# Altium integrated library Diodes - TVS.IntLib: 5379 symbols (part 13 of 122)
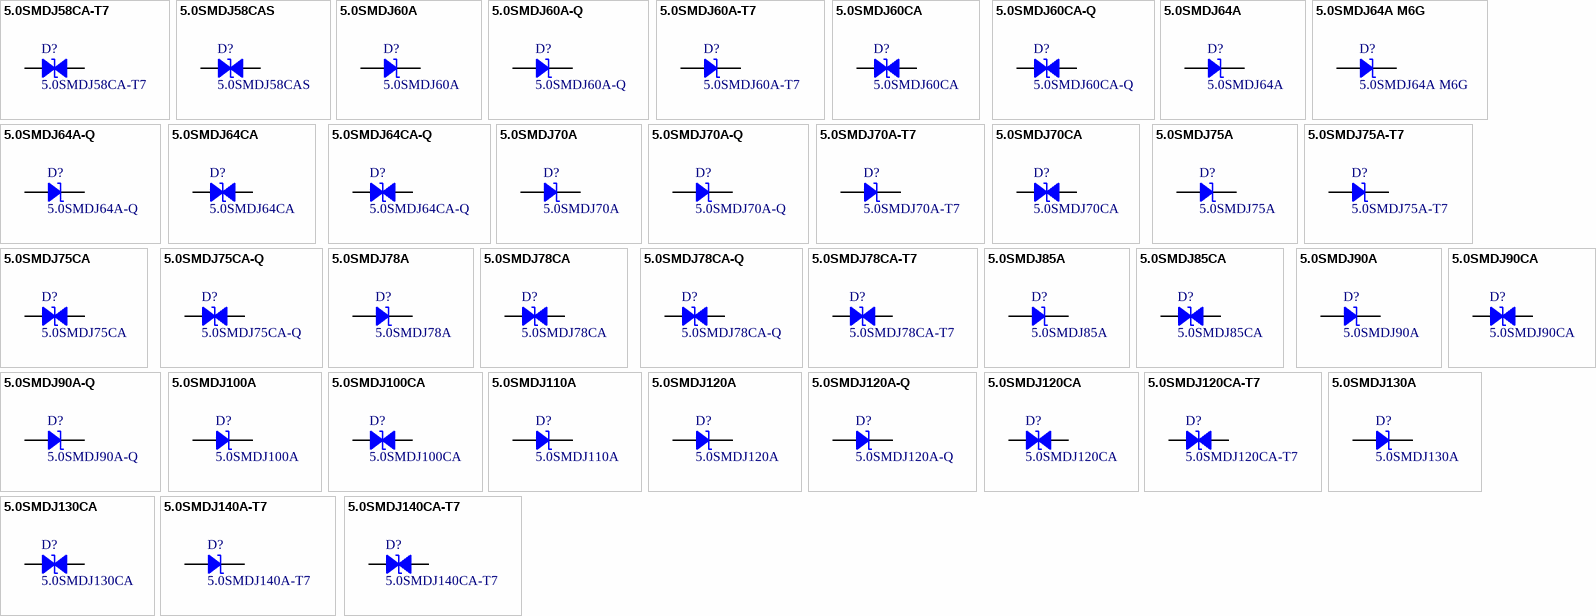
[diagram p146: symbols 5.0SMDJ58CA-T7 to 5.0SMDJ140CA-T7]

## 5.0SMDJ60A-Q
designator D?
TVS DIODE; Manufacturer: Bourns Inc.; Current - Peak Pulse (10/1000µs): 51.7A; Power Line Protection: No; Power - Peak Pulse: 5000W (5kW); Type: Zener; Unidirectional Channels: 1; Voltage - Breakdown (Min): 66.7V; Voltage - Clamping (Max) @ Ipp: 96.8V; Voltage - Reverse Standoff (Typ): 60V; Part Number: 5.0SMDJ60A-Q; Applications: Automotive, Telecom; ComponentLink1Description: Datasheet; ComponentLink1URL: https://www.bourns.com/docs/product-datasheets/5-0smdj-q.pdf; ComponentLink2Description: DigiKey Link; ComponentLink2URL: http://digikey.com/product-detail/en/bourns-inc/5.0SMDJ60A-Q/118-5.0SMDJ60A-QCT-ND/10447742; LastUpdated: 9/2/2020 1:20:06 AM; Lifecycle Status: Active; Minimum Order: 1; Mounting Type: Surface Mount; Operating Temperature: -55°C ~ 150°C (TJ); Package / Case: DO-214AB, SMC; Packaging: TapeAndReel; PartId: 7022; Part Status: Active; Price: 0.86; Series: Automotive, AEC-Q101, 5.0SMDJ; Supplier 1: DigiKey; Supplier Part Number 1: 118-5.0SMDJ60A-QCT-ND; Supplier Device Package: SMC (DO-214AB)
footprint DO214AB SMC
pins: 1, 2

## 5.0SMDJ60A-T7
designator D?
TVS DIODE 60VWM 96.8VC SMD; Manufacturer: Littelfuse Inc.; Current - Peak Pulse (10/1000µs): 51.7A; Power Line Protection: No; Power - Peak Pulse: 5000W (5kW); Type: Zener; Unidirectional Channels: 1; Voltage - Breakdown (Min): 66.7V; Voltage - Clamping (Max) @ Ipp: 96.8V; Voltage - Reverse Standoff (Typ): 60V; Part Number: 5.0SMDJ60A-T7; Applications: General Purpose; ComponentLink1Description: Datasheet; ComponentLink1URL: https://www.littelfuse.com/products/tvs-diodes/surface-mount/~/media/electronics/datasheets/tvs_diodes/littelfuse_tvs_diode_5_0smdj_datasheet.pdf.pdf; ComponentLink2Description: DigiKey Link; ComponentLink2URL: http://digikey.com/product-detail/en/littelfuse-inc/5.0SMDJ60A-T7/5.0SMDJ60A-T7CT-ND/8548368; LastUpdated: 9/2/2020 1:20:05 AM; Lifecycle Status: Active; Minimum Order: 1; Mounting Type: Surface Mount; Operating Temperature: -65°C ~ 150°C (TJ); Package / Case: DO-214AB, SMC; Packaging: TapeAndReel; PartId: 6912; Part Status: Active; Price: 1.12; Series: 5.0SMDJ; Supplier 1: DigiKey; Supplier Part Number 1: 5.0SMDJ60A-T7CT-ND; Supplier Device Package: DO-214AB (SMCJ)
footprint DO214AB SMC
pins: 1, 2

## 5.0SMDJ60CA
designator D?
DIO TVS VWM 60V 5KW BIDIR SMC; Manufacturer: Bourns Inc.; Bidirectional Channels: 1; Current - Peak Pulse (10/1000µs): 51.7A; Power Line Protection: No; Power - Peak Pulse: 5000W (5kW); Type: Zener; Voltage - Breakdown (Min): 66.7V; Voltage - Clamping (Max) @ Ipp: 96.8V; Part Number: 5.0SMDJ60CA; Applications: General Purpose; ComponentLink1Description: Datasheet; ComponentLink1URL: https://www.bourns.com/docs/product-datasheets/5-0smdj.pdf; ComponentLink2Description: DigiKey Link; ComponentLink2URL: http://digikey.com/product-detail/en/bourns-inc/5.0SMDJ60CA/5.0SMDJ60CACT-ND/9341818; LastUpdated: 9/2/2020 1:28:01 AM; Lifecycle Status: Active; Minimum Order: 1; Mounting Type: Surface Mount; Operating Temperature: -55°C ~ 150°C (TJ); Package / Case: DO-214AB, SMC; Packaging: TapeAndReel; PartId: 7901; Part Status: Active; Price: 0.71; Series: 5.0SMDJ; Supplier 1: DigiKey; Supplier Part Number 1: 5.0SMDJ60CACT-ND; Supplier Device Package: DO-214AB (SMC); Voltage - Reverse Standoff (Typ): 60V
footprint DO214AB SMC
pins: 1, 2

## 5.0SMDJ60CA-Q
designator D?
TVS DIODE; Manufacturer: Bourns Inc.; Bidirectional Channels: 1; Current - Peak Pulse (10/1000µs): 51.7A; Power Line Protection: No; Power - Peak Pulse: 5000W (5kW); Type: Zener; Voltage - Breakdown (Min): 66.7V; Voltage - Clamping (Max) @ Ipp: 96.8V; Voltage - Reverse Standoff (Typ): 60V; Part Number: 5.0SMDJ60CA-Q; Applications: Automotive, Telecom; ComponentLink1Description: Datasheet; ComponentLink1URL: https://www.bourns.com/docs/product-datasheets/5-0smdj-q.pdf; ComponentLink2Description: DigiKey Link; ComponentLink2URL: http://digikey.com/product-detail/en/bourns-inc/5.0SMDJ60CA-Q/118-5.0SMDJ60CA-QCT-ND/10447712; LastUpdated: 9/2/2020 1:28:08 AM; Lifecycle Status: Active; Minimum Order: 1; Mounting Type: Surface Mount; Operating Temperature: -55°C ~ 150°C (TJ); Package / Case: DO-214AB, SMC; Packaging: TapeAndReel; PartId: 8612; Part Status: Active; Price: 0.91; Series: Automotive, AEC-Q101, 5.0SMDJ; Supplier 1: DigiKey; Supplier Part Number 1: 118-5.0SMDJ60CA-QCT-ND; Supplier Device Package: SMC (DO-214AB)
footprint DO214AB SMC
pins: 1, 2

## 5.0SMDJ64A
designator D?
TVS DIODE 64V 103V DO214AB; Manufacturer: Bourns Inc.; Current - Peak Pulse (10/1000µs): 48.6A; Power Line Protection: No; Power - Peak Pulse: 5000W (5kW); Type: Zener; Unidirectional Channels: 1; Voltage - Breakdown (Min): 71.1V; Part Number: 5.0SMDJ64A; Applications: General Purpose; ComponentLink1Description: Datasheet; ComponentLink1URL: https://www.bourns.com/docs/product-datasheets/5-0smdj.pdf; ComponentLink2Description: DigiKey Link; ComponentLink2URL: http://digikey.com/product-detail/en/bourns-inc/5.0SMDJ64A/5.0SMDJ64ABBCT-ND/7796668; LastUpdated: 9/2/2020 1:20:00 AM; Lifecycle Status: Active; Minimum Order: 1; Mounting Type: Surface Mount; Operating Temperature: -55°C ~ 150°C (TJ); Package / Case: DO-214AB, SMC; Packaging: TapeAndReel; PartId: 6446; Part Status: Active; Price: 0.76; Series: 5.0SMDJ; Supplier 1: DigiKey; Supplier Part Number 1: 5.0SMDJ64ABBCT-ND; Supplier Device Package: DO-214AB (SMC); Voltage - Clamping (Max) @ Ipp: 103V; Voltage - Reverse Standoff (Typ): 64V
footprint DO214AB SMC
pins: 1, 2

## 5.0SMDJ64A M6G
designator D?
TVS DIODE 64V 103V DO214AB; Manufacturer: Taiwan Semiconductor Corporation; Current - Peak Pulse (10/1000µs): 48.6A; Power Line Protection: No; Power - Peak Pulse: 5000W (5kW); Type: Zener; Unidirectional Channels: 1; Voltage - Breakdown (Min): 71.1V; Part Number: 5.0SMDJ64A M6G; Applications: General Purpose; ComponentLink1Description: Datasheet; ComponentLink1URL: https://www.taiwansemi.com/products/datasheet/5.0SMDJ%20SERIES_B1708.pdf; ComponentLink2Description: DigiKey Link; ComponentLink2URL: http://digikey.com/product-detail/en/taiwan-semiconductor-corporation/5.0SMDJ64A-M6G/5.0SMDJ64AM6GCT-ND/7623363; LastUpdated: 9/2/2020 1:20:06 AM; Lifecycle Status: Active; Minimum Order: 1; Mounting Type: Surface Mount; Operating Temperature: -55°C ~ 175°C (TJ); Package / Case: DO-214AB, SMC; Packaging: TapeAndReel; PartId: 7001; Part Status: Active; Price: 1.10; Series: 5.0SMDJ; Supplier 1: DigiKey; Supplier Part Number 1: 5.0SMDJ64AM6GCT-ND; Supplier Device Package: DO-214AB (SMC); Voltage - Clamping (Max) @ Ipp: 103V; Voltage - Reverse Standoff (Typ): 64V
footprint DO214AB SMC
pins: 1, 2

## 5.0SMDJ64A-Q
designator D?
TVS DIODE; Manufacturer: Bourns Inc.; Current - Peak Pulse (10/1000µs): 48.6A; Power Line Protection: No; Power - Peak Pulse: 5000W (5kW); Type: Zener; Unidirectional Channels: 1; Voltage - Breakdown (Min): 71.1V; Voltage - Clamping (Max) @ Ipp: 103V; Voltage - Reverse Standoff (Typ): 64V; Part Number: 5.0SMDJ64A-Q; Applications: Automotive, Telecom; ComponentLink1Description: Datasheet; ComponentLink1URL: https://www.bourns.com/docs/product-datasheets/5-0smdj-q.pdf; ComponentLink2Description: DigiKey Link; ComponentLink2URL: http://digikey.com/product-detail/en/bourns-inc/5.0SMDJ64A-Q/118-5.0SMDJ64A-QCT-ND/10447713; LastUpdated: 9/2/2020 1:20:06 AM; Lifecycle Status: Active; Minimum Order: 1; Mounting Type: Surface Mount; Operating Temperature: -55°C ~ 150°C (TJ); Package / Case: DO-214AB, SMC; Packaging: TapeAndReel; PartId: 7025; Part Status: Active; Price: 0.86; Series: Automotive, AEC-Q101, 5.0SMDJ; Supplier 1: DigiKey; Supplier Part Number 1: 118-5.0SMDJ64A-QCT-ND; Supplier Device Package: SMC (DO-214AB)
footprint DO214AB SMC
pins: 1, 2

## 5.0SMDJ64CA
designator D?
DIO TVS VWM 64V 5KW BIDIR SMC; Manufacturer: Bourns Inc.; Bidirectional Channels: 1; Current - Peak Pulse (10/1000µs): 48.6A; Power Line Protection: No; Power - Peak Pulse: 5000W (5kW); Type: Zener; Voltage - Breakdown (Min): 71.1V; Voltage - Clamping (Max) @ Ipp: 103V; Part Number: 5.0SMDJ64CA; Applications: General Purpose; ComponentLink1Description: Datasheet; ComponentLink1URL: https://www.bourns.com/docs/product-datasheets/5-0smdj.pdf; ComponentLink2Description: DigiKey Link; ComponentLink2URL: http://digikey.com/product-detail/en/bourns-inc/5.0SMDJ64CA/5.0SMDJ64CACT-ND/9341824; LastUpdated: 9/2/2020 1:28:04 AM; Lifecycle Status: Active; Minimum Order: 1; Mounting Type: Surface Mount; Operating Temperature: -55°C ~ 150°C (TJ); Package / Case: DO-214AB, SMC; Packaging: TapeAndReel; PartId: 8244; Part Status: Active; Price: 0.76; Series: 5.0SMDJ; Supplier 1: DigiKey; Supplier Part Number 1: 5.0SMDJ64CACT-ND; Supplier Device Package: DO-214AB (SMC); Voltage - Reverse Standoff (Typ): 64V
footprint DO214AB SMC
pins: 1, 2

## 5.0SMDJ64CA-Q
designator D?
TVS DIODE; Manufacturer: Bourns Inc.; Bidirectional Channels: 1; Current - Peak Pulse (10/1000µs): 48.6A; Power Line Protection: No; Power - Peak Pulse: 5000W (5kW); Type: Zener; Voltage - Breakdown (Min): 71.1V; Voltage - Clamping (Max) @ Ipp: 103V; Voltage - Reverse Standoff (Typ): 64V; Part Number: 5.0SMDJ64CA-Q; Applications: Automotive, Telecom; ComponentLink1Description: Datasheet; ComponentLink1URL: https://www.bourns.com/docs/product-datasheets/5-0smdj-q.pdf; ComponentLink2Description: DigiKey Link; ComponentLink2URL: http://digikey.com/product-detail/en/bourns-inc/5.0SMDJ64CA-Q/118-5.0SMDJ64CA-QCT-ND/10447725; LastUpdated: 9/2/2020 1:28:08 AM; Lifecycle Status: Active; Minimum Order: 1; Mounting Type: Surface Mount; Operating Temperature: -55°C ~ 150°C (TJ); Package / Case: DO-214AB, SMC; Packaging: TapeAndReel; PartId: 8610; Part Status: Active; Price: 0.91; Series: Automotive, AEC-Q101, 5.0SMDJ; Supplier 1: DigiKey; Supplier Part Number 1: 118-5.0SMDJ64CA-QCT-ND; Supplier Device Package: SMC (DO-214AB)
footprint DO214AB SMC
pins: 1, 2

## 5.0SMDJ70A
designator D?
TVS DIODE 70V 113V DO214AB; Manufacturer: Bourns Inc.; Current - Peak Pulse (10/1000µs): 44.3A; Power Line Protection: No; Power - Peak Pulse: 5000W (5kW); Type: Zener; Unidirectional Channels: 1; Voltage - Breakdown (Min): 77.8V; Part Number: 5.0SMDJ70A; Applications: General Purpose; ComponentLink1Description: Datasheet; ComponentLink1URL: https://www.bourns.com/docs/product-datasheets/5-0smdj.pdf; ComponentLink2Description: DigiKey Link; ComponentLink2URL: http://digikey.com/product-detail/en/bourns-inc/5.0SMDJ70A/5.0SMDJ70ABBCT-ND/7796669; LastUpdated: 9/2/2020 1:20:00 AM; Lifecycle Status: Active; Minimum Order: 1; Mounting Type: Surface Mount; Operating Temperature: -55°C ~ 150°C (TJ); Package / Case: DO-214AB, SMC; Packaging: TapeAndReel; PartId: 6445; Part Status: Active; Price: 0.70; Series: 5.0SMDJ; Supplier 1: DigiKey; Supplier Part Number 1: 5.0SMDJ70ABBCT-ND; Supplier Device Package: DO-214AB (SMC); Voltage - Clamping (Max) @ Ipp: 113V; Voltage - Reverse Standoff (Typ): 70V
footprint DO214AB SMC
pins: 1, 2

## 5.0SMDJ70A-Q
designator D?
TVS DIODE; Manufacturer: Bourns Inc.; Current - Peak Pulse (10/1000µs): 44.3A; Power Line Protection: No; Power - Peak Pulse: 5000W (5kW); Type: Zener; Unidirectional Channels: 1; Voltage - Breakdown (Min): 77.8V; Voltage - Clamping (Max) @ Ipp: 113V; Voltage - Reverse Standoff (Typ): 70V; Part Number: 5.0SMDJ70A-Q; Applications: Automotive, Telecom; ComponentLink1Description: Datasheet; ComponentLink1URL: https://www.bourns.com/docs/product-datasheets/5-0smdj-q.pdf; ComponentLink2Description: DigiKey Link; ComponentLink2URL: http://digikey.com/product-detail/en/bourns-inc/5.0SMDJ70A-Q/118-5.0SMDJ70A-QCT-ND/10447717; LastUpdated: 9/2/2020 1:20:06 AM; Lifecycle Status: Active; Minimum Order: 1; Mounting Type: Surface Mount; Operating Temperature: -55°C ~ 150°C (TJ); Package / Case: DO-214AB, SMC; Packaging: TapeAndReel; PartId: 7024; Part Status: Active; Price: 0.86; Series: Automotive, AEC-Q101, 5.0SMDJ; Supplier 1: DigiKey; Supplier Part Number 1: 118-5.0SMDJ70A-QCT-ND; Supplier Device Package: SMC (DO-214AB)
footprint DO214AB SMC
pins: 1, 2

## 5.0SMDJ70A-T7
designator D?
TVS DIODE 70V 113V DO214AB; Manufacturer: Littelfuse Inc.; Current - Peak Pulse (10/1000µs): 44.3A; Power Line Protection: No; Power - Peak Pulse: 5000W (5kW); Type: Zener; Unidirectional Channels: 1; Voltage - Breakdown (Min): 77.8V; Part Number: 5.0SMDJ70A-T7; Applications: General Purpose; ComponentLink1Description: Datasheet; ComponentLink1URL: https://www.littelfuse.com/products/tvs-diodes/surface-mount/~/media/electronics/datasheets/tvs_diodes/littelfuse_tvs_diode_5_0smdj_datasheet.pdf.pdf; ComponentLink2Description: DigiKey Link; ComponentLink2URL: http://digikey.com/product-detail/en/littelfuse-inc/5.0SMDJ70A-T7/5.0SMDJ70A-T7CT-ND/9857576; LastUpdated: 9/2/2020 1:19:58 AM; Lifecycle Status: Active; Minimum Order: 1; Mounting Type: Surface Mount; Operating Temperature: -65°C ~ 150°C (TJ); Package / Case: DO-214AB, SMC; Packaging: TapeAndReel; PartId: 6223; Part Status: Active; Price: 1.12; Series: 5.0SMDJ; Supplier 1: DigiKey; Supplier Part Number 1: 5.0SMDJ70A-T7CT-ND; Supplier Device Package: DO-214AB (SMCJ); Voltage - Clamping (Max) @ Ipp: 113V; Voltage - Reverse Standoff (Typ): 70V
footprint DO214AB SMC
pins: 1, 2

## 5.0SMDJ70CA
designator D?
DIO TVS VWM 70V 5KW BIDIR SMC; Manufacturer: Bourns Inc.; Bidirectional Channels: 1; Current - Peak Pulse (10/1000µs): 44.3A; Power Line Protection: No; Power - Peak Pulse: 5000W (5kW); Type: Zener; Voltage - Breakdown (Min): 77.8V; Voltage - Clamping (Max) @ Ipp: 113V; Part Number: 5.0SMDJ70CA; Applications: General Purpose; ComponentLink1Description: Datasheet; ComponentLink1URL: https://www.bourns.com/docs/product-datasheets/5-0smdj.pdf; ComponentLink2Description: DigiKey Link; ComponentLink2URL: http://digikey.com/product-detail/en/bourns-inc/5.0SMDJ70CA/5.0SMDJ70CACT-ND/9341854; LastUpdated: 9/2/2020 1:28:04 AM; Lifecycle Status: Active; Minimum Order: 1; Mounting Type: Surface Mount; Operating Temperature: -55°C ~ 150°C (TJ); Package / Case: DO-214AB, SMC; Packaging: TapeAndReel; PartId: 8188; Part Status: Active; Price: 0.76; Series: 5.0SMDJ; Supplier 1: DigiKey; Supplier Part Number 1: 5.0SMDJ70CACT-ND; Supplier Device Package: DO-214AB (SMC); Voltage - Reverse Standoff (Typ): 70V
footprint DO214AB SMC
pins: 1, 2

## 5.0SMDJ75A
designator D?
TVS DIODE 75V 121V DO214AB; Manufacturer: Littelfuse Inc.; Current - Peak Pulse (10/1000µs): 41.4A; Power Line Protection: No; Power - Peak Pulse: 5000W (5kW); Type: Zener; Unidirectional Channels: 1; Voltage - Breakdown (Min): 83.3V; Part Number: 5.0SMDJ75A; Applications: General Purpose; ComponentLink1Description: Datasheet; ComponentLink1URL: https://www.littelfuse.com/products/tvs-diodes/surface-mount/~/media/electronics/datasheets/tvs_diodes/littelfuse_tvs_diode_5_0smdj_datasheet.pdf.pdf; ComponentLink2Description: DigiKey Link; ComponentLink2URL: http://digikey.com/product-detail/en/littelfuse-inc/5.0SMDJ75A/5.0SMDJ75ACT-ND/2699854; LastUpdated: 9/2/2020 1:20:08 AM; Lifecycle Status: Active; Minimum Order: 1; Mounting Type: Surface Mount; Operating Temperature: -65°C ~ 150°C (TJ); Package / Case: DO-214AB, SMC; Packaging: TapeAndReel; PartId: 7265; Part Status: Active; Price: 0.94; Series: 5.0SMDJ; Supplier 1: DigiKey; Supplier Part Number 1: 5.0SMDJ75ACT-ND; Supplier Device Package: DO-214AB (SMCJ); Voltage - Clamping (Max) @ Ipp: 121V; Voltage - Reverse Standoff (Typ): 75V
footprint DO214AB SMC
pins: 1, 2

## 5.0SMDJ75A-T7
designator D?
TVS DIODE 75VWM 121VC SMD; Manufacturer: Littelfuse Inc.; Current - Peak Pulse (10/1000µs): 41.4A; Power Line Protection: No; Power - Peak Pulse: 5000W (5kW); Type: Zener; Unidirectional Channels: 1; Voltage - Breakdown (Min): 83.3V; Voltage - Clamping (Max) @ Ipp: 121V; Voltage - Reverse Standoff (Typ): 75V; Part Number: 5.0SMDJ75A-T7; Applications: General Purpose; ComponentLink1Description: Datasheet; ComponentLink1URL: https://www.littelfuse.com/products/tvs-diodes/surface-mount/~/media/electronics/datasheets/tvs_diodes/littelfuse_tvs_diode_5_0smdj_datasheet.pdf.pdf; ComponentLink2Description: DigiKey Link; ComponentLink2URL: http://digikey.com/product-detail/en/littelfuse-inc/5.0SMDJ75A-T7/5.0SMDJ75A-T7CT-ND/8548370; LastUpdated: 9/2/2020 1:19:58 AM; Lifecycle Status: Active; Minimum Order: 1; Mounting Type: Surface Mount; Operating Temperature: -65°C ~ 150°C (TJ); Package / Case: DO-214AB, SMC; Packaging: TapeAndReel; PartId: 6224; Part Status: Active; Price: 1.12; Series: 5.0SMDJ; Supplier 1: DigiKey; Supplier Part Number 1: 5.0SMDJ75A-T7CT-ND; Supplier Device Package: DO-214AB (SMCJ)
footprint DO214AB SMC
pins: 1, 2

## 5.0SMDJ75CA
designator D?
TVS DIODE 75V 121V DO214AB; Manufacturer: Littelfuse Inc.; Bidirectional Channels: 1; Current - Peak Pulse (10/1000µs): 41.4A; Power Line Protection: No; Power - Peak Pulse: 5000W (5kW); Type: Zener; Voltage - Breakdown (Min): 83.3V; Part Number: 5.0SMDJ75CA; Applications: General Purpose; ComponentLink1Description: Datasheet; ComponentLink1URL: https://www.littelfuse.com/products/tvs-diodes/surface-mount/~/media/electronics/datasheets/tvs_diodes/littelfuse_tvs_diode_5_0smdj_datasheet.pdf.pdf; ComponentLink2Description: DigiKey Link; ComponentLink2URL: http://digikey.com/product-detail/en/littelfuse-inc/5.0SMDJ75CA/F10860CT-ND/8109596; LastUpdated: 9/2/2020 1:28:02 AM; Lifecycle Status: Active; Minimum Order: 1; Mounting Type: Surface Mount; Operating Temperature: -65°C ~ 150°C (TJ); Package / Case: DO-214AB, SMC; Packaging: TapeAndReel; PartId: 8025; Part Status: Active; Price: 1.25; Series: 5.0SMDJ; Supplier 1: DigiKey; Supplier Part Number 1: F10860CT-ND; Supplier Device Package: DO-214AB (SMCJ); Voltage - Clamping (Max) @ Ipp: 121V; Voltage - Reverse Standoff (Typ): 75V
footprint DO214AB SMC
pins: 1, 2

## 5.0SMDJ75CA-Q
designator D?
TVS DIODE; Manufacturer: Bourns Inc.; Bidirectional Channels: 1; Current - Peak Pulse (10/1000µs): 41.4A; Power Line Protection: No; Power - Peak Pulse: 5000W (5kW); Type: Zener; Voltage - Breakdown (Min): 83.3V; Voltage - Clamping (Max) @ Ipp: 121V; Voltage - Reverse Standoff (Typ): 75V; Part Number: 5.0SMDJ75CA-Q; Applications: Automotive, Telecom; ComponentLink1Description: Datasheet; ComponentLink1URL: https://www.bourns.com/docs/product-datasheets/5-0smdj-q.pdf; ComponentLink2Description: DigiKey Link; ComponentLink2URL: http://digikey.com/product-detail/en/bourns-inc/5.0SMDJ75CA-Q/118-5.0SMDJ75CA-QCT-ND/10447758; LastUpdated: 9/2/2020 1:28:08 AM; Lifecycle Status: Active; Minimum Order: 1; Mounting Type: Surface Mount; Operating Temperature: -55°C ~ 150°C (TJ); Package / Case: DO-214AB, SMC; Packaging: TapeAndReel; PartId: 8604; Part Status: Active; Price: 0.91; Series: Automotive, AEC-Q101, 5.0SMDJ; Supplier 1: DigiKey; Supplier Part Number 1: 118-5.0SMDJ75CA-QCT-ND; Supplier Device Package: SMC (DO-214AB)
footprint DO214AB SMC
pins: 1, 2

## 5.0SMDJ78A
designator D?
TVS DIODE 78V 126V DO214AB; Manufacturer: Littelfuse Inc.; Current - Peak Pulse (10/1000µs): 39.7A; Power Line Protection: No; Power - Peak Pulse: 5000W (5kW); Type: Zener; Unidirectional Channels: 1; Voltage - Breakdown (Min): 86.7V; Part Number: 5.0SMDJ78A; Applications: General Purpose; ComponentLink1Description: Datasheet; ComponentLink1URL: https://www.littelfuse.com/products/tvs-diodes/surface-mount/~/media/electronics/datasheets/tvs_diodes/littelfuse_tvs_diode_5_0smdj_datasheet.pdf.pdf; ComponentLink2Description: DigiKey Link; ComponentLink2URL: http://digikey.com/product-detail/en/littelfuse-inc/5.0SMDJ78A/5.0SMDJ78ACT-ND/2699855; LastUpdated: 9/2/2020 1:19:58 AM; Lifecycle Status: Active; Minimum Order: 1; Mounting Type: Surface Mount; Operating Temperature: -65°C ~ 150°C (TJ); Package / Case: DO-214AB, SMC; Packaging: TapeAndReel; PartId: 6225; Part Status: Active; Price: 0.94; Series: 5.0SMDJ; Supplier 1: DigiKey; Supplier Part Number 1: 5.0SMDJ78ACT-ND; Supplier Device Package: DO-214AB (SMCJ); Voltage - Clamping (Max) @ Ipp: 126V; Voltage - Reverse Standoff (Typ): 78V
footprint DO214AB SMC
pins: 1, 2

## 5.0SMDJ78CA
designator D?
DIO TVS VWM 78V 5KW BIDIR SMC; Manufacturer: Bourns Inc.; Bidirectional Channels: 1; Current - Peak Pulse (10/1000µs): 39.7A; Power Line Protection: No; Power - Peak Pulse: 5000W (5kW); Type: Zener; Voltage - Breakdown (Min): 86.7V; Voltage - Clamping (Max) @ Ipp: 126V; Part Number: 5.0SMDJ78CA; Applications: General Purpose; ComponentLink1Description: Datasheet; ComponentLink1URL: https://www.bourns.com/docs/product-datasheets/5-0smdj.pdf; ComponentLink2Description: DigiKey Link; ComponentLink2URL: http://digikey.com/product-detail/en/bourns-inc/5.0SMDJ78CA/5.0SMDJ78CACT-ND/9341866; LastUpdated: 9/2/2020 1:28:04 AM; Lifecycle Status: Active; Minimum Order: 1; Mounting Type: Surface Mount; Operating Temperature: -55°C ~ 150°C (TJ); Package / Case: DO-214AB, SMC; Packaging: TapeAndReel; PartId: 8251; Part Status: Active; Price: 0.71; Series: 5.0SMDJ; Supplier 1: DigiKey; Supplier Part Number 1: 5.0SMDJ78CACT-ND; Supplier Device Package: DO-214AB (SMC); Voltage - Reverse Standoff (Typ): 78V
footprint DO214AB SMC
pins: 1, 2

## 5.0SMDJ78CA-Q
designator D?
TVS DIODE; Manufacturer: Bourns Inc.; Bidirectional Channels: 1; Current - Peak Pulse (10/1000µs): 39.7A; Power Line Protection: No; Power - Peak Pulse: 5000W (5kW); Type: Zener; Voltage - Breakdown (Min): 86.7V; Voltage - Clamping (Max) @ Ipp: 126V; Voltage - Reverse Standoff (Typ): 78V; Part Number: 5.0SMDJ78CA-Q; Applications: Automotive, Telecom; ComponentLink1Description: Datasheet; ComponentLink1URL: https://www.bourns.com/docs/product-datasheets/5-0smdj-q.pdf; ComponentLink2Description: DigiKey Link; ComponentLink2URL: http://digikey.com/product-detail/en/bourns-inc/5.0SMDJ78CA-Q/118-5.0SMDJ78CA-QCT-ND/10447750; LastUpdated: 9/2/2020 1:28:08 AM; Lifecycle Status: Active; Minimum Order: 1; Mounting Type: Surface Mount; Operating Temperature: -55°C ~ 150°C (TJ); Package / Case: DO-214AB, SMC; Packaging: TapeAndReel; PartId: 8605; Part Status: Active; Price: 0.91; Series: Automotive, AEC-Q101, 5.0SMDJ; Supplier 1: DigiKey; Supplier Part Number 1: 118-5.0SMDJ78CA-QCT-ND; Supplier Device Package: SMC (DO-214AB)
footprint DO214AB SMC
pins: 1, 2

## 5.0SMDJ78CA-T7
designator D?
TVS DIODE 78V 126V DO214AB; Manufacturer: Littelfuse Inc.; Bidirectional Channels: 1; Current - Peak Pulse (10/1000µs): 39.7A; Power Line Protection: No; Power - Peak Pulse: 5000W (5kW); Type: Zener; Voltage - Breakdown (Min): 86.7V; Part Number: 5.0SMDJ78CA-T7; Applications: General Purpose; ComponentLink1Description: Datasheet; ComponentLink1URL: https://www.littelfuse.com/products/tvs-diodes/surface-mount/~/media/electronics/datasheets/tvs_diodes/littelfuse_tvs_diode_5_0smdj_datasheet.pdf.pdf; ComponentLink2Description: DigiKey Link; ComponentLink2URL: http://digikey.com/product-detail/en/littelfuse-inc/5.0SMDJ78CA-T7/18-5.0SMDJ78CA-T7CT-ND/10671936; LastUpdated: 9/2/2020 1:28:02 AM; Lifecycle Status: Active; Minimum Order: 1; Mounting Type: Surface Mount; Operating Temperature: -65°C ~ 150°C (TJ); Package / Case: DO-214AB, SMC; Packaging: TapeAndReel; PartId: 8023; Part Status: Active; Price: 1.49; Series: 5.0SMDJ; Supplier 1: DigiKey; Supplier Part Number 1: 18-5.0SMDJ78CA-T7CT-ND; Supplier Device Package: DO-214AB (SMCJ); Voltage - Clamping (Max) @ Ipp: 126V; Voltage - Reverse Standoff (Typ): 78V
footprint DO214AB SMC
pins: 1, 2

## 5.0SMDJ85A
designator D?
TVS DIODE 85V 137V DO214AB; Manufacturer: Littelfuse Inc.; Current - Peak Pulse (10/1000µs): 36.5A; Power Line Protection: No; Power - Peak Pulse: 5000W (5kW); Type: Zener; Unidirectional Channels: 1; Voltage - Breakdown (Min): 94.4V; Part Number: 5.0SMDJ85A; Applications: General Purpose; ComponentLink1Description: Datasheet; ComponentLink1URL: https://www.littelfuse.com/products/tvs-diodes/surface-mount/~/media/electronics/datasheets/tvs_diodes/littelfuse_tvs_diode_5_0smdj_datasheet.pdf.pdf; ComponentLink2Description: DigiKey Link; ComponentLink2URL: http://digikey.com/product-detail/en/littelfuse-inc/5.0SMDJ85A/5.0SMDJ85ACT-ND/2699020; LastUpdated: 9/2/2020 1:20:04 AM; Lifecycle Status: Active; Minimum Order: 1; Mounting Type: Surface Mount; Operating Temperature: -65°C ~ 150°C (TJ); Package / Case: DO-214AB, SMC; Packaging: TapeAndReel; PartId: 6807; Part Status: Active; Price: 0.94; Series: 5.0SMDJ; Supplier 1: DigiKey; Supplier Part Number 1: 5.0SMDJ85ACT-ND; Supplier Device Package: DO-214AB (SMCJ); Voltage - Clamping (Max) @ Ipp: 137V; Voltage - Reverse Standoff (Typ): 85V
footprint DO214AB SMC
pins: 1, 2

## 5.0SMDJ85CA
designator D?
DIO TVS VWM 85V 5KW BIDIR SMC; Manufacturer: Bourns Inc.; Bidirectional Channels: 1; Current - Peak Pulse (10/1000µs): 36.5A; Power Line Protection: No; Power - Peak Pulse: 5000W (5kW); Type: Zener; Voltage - Breakdown (Min): 94.4V; Voltage - Clamping (Max) @ Ipp: 137V; Part Number: 5.0SMDJ85CA; Applications: General Purpose; ComponentLink1Description: Datasheet; ComponentLink1URL: https://www.bourns.com/docs/product-datasheets/5-0smdj.pdf; ComponentLink2Description: DigiKey Link; ComponentLink2URL: http://digikey.com/product-detail/en/bourns-inc/5.0SMDJ85CA/5.0SMDJ85CACT-ND/9341896; LastUpdated: 9/2/2020 1:28:05 AM; Lifecycle Status: Active; Minimum Order: 1; Mounting Type: Surface Mount; Operating Temperature: -55°C ~ 150°C (TJ); Package / Case: DO-214AB, SMC; Packaging: TapeAndReel; PartId: 8370; Part Status: Active; Price: 0.76; Series: 5.0SMDJ; Supplier 1: DigiKey; Supplier Part Number 1: 5.0SMDJ85CACT-ND; Supplier Device Package: DO-214AB (SMC); Voltage - Reverse Standoff (Typ): 85V
footprint DO214AB SMC
pins: 1, 2

## 5.0SMDJ90A
designator D?
TVS DIODE 90V 146V DO214AB; Manufacturer: Littelfuse Inc.; Current - Peak Pulse (10/1000µs): 34.3A; Power Line Protection: No; Power - Peak Pulse: 5000W (5kW); Type: Zener; Unidirectional Channels: 1; Voltage - Breakdown (Min): 100V; Part Number: 5.0SMDJ90A; Applications: General Purpose; ComponentLink1Description: Datasheet; ComponentLink1URL: https://www.littelfuse.com/products/tvs-diodes/surface-mount/~/media/electronics/datasheets/tvs_diodes/littelfuse_tvs_diode_5_0smdj_datasheet.pdf.pdf; ComponentLink2Description: DigiKey Link; ComponentLink2URL: http://digikey.com/product-detail/en/littelfuse-inc/5.0SMDJ90A/5.0SMDJ90ACT-ND/2699856; LastUpdated: 9/2/2020 1:20:04 AM; Lifecycle Status: Active; Minimum Order: 1; Mounting Type: Surface Mount; Operating Temperature: -65°C ~ 150°C (TJ); Package / Case: DO-214AB, SMC; Packaging: TapeAndReel; PartId: 6803; Part Status: Active; Price: 0.94; Series: 5.0SMDJ; Supplier 1: DigiKey; Supplier Part Number 1: 5.0SMDJ90ACT-ND; Supplier Device Package: DO-214AB (SMCJ); Voltage - Clamping (Max) @ Ipp: 146V; Voltage - Reverse Standoff (Typ): 90V
footprint DO214AB SMC
pins: 1, 2

## 5.0SMDJ90A-Q
designator D?
TVS DIODE; Manufacturer: Bourns Inc.; Current - Peak Pulse (10/1000µs): 34.3A; Power Line Protection: No; Power - Peak Pulse: 5000W (5kW); Type: Zener; Unidirectional Channels: 1; Voltage - Breakdown (Min): 100V; Voltage - Clamping (Max) @ Ipp: 146V; Voltage - Reverse Standoff (Typ): 90V; Part Number: 5.0SMDJ90A-Q; Applications: Automotive, Telecom; ComponentLink1Description: Datasheet; ComponentLink1URL: https://www.bourns.com/docs/product-datasheets/5-0smdj-q.pdf; ComponentLink2Description: DigiKey Link; ComponentLink2URL: http://digikey.com/product-detail/en/bourns-inc/5.0SMDJ90A-Q/118-5.0SMDJ90A-QCT-ND/10447709; LastUpdated: 9/2/2020 1:20:06 AM; Lifecycle Status: Active; Minimum Order: 1; Mounting Type: Surface Mount; Operating Temperature: -55°C ~ 150°C (TJ); Package / Case: DO-214AB, SMC; Packaging: TapeAndReel; PartId: 7017; Part Status: Active; Price: 0.97; Series: Automotive, AEC-Q101, 5.0SMDJ; Supplier 1: DigiKey; Supplier Part Number 1: 118-5.0SMDJ90A-QCT-ND; Supplier Device Package: SMC (DO-214AB)
footprint DO214AB SMC
pins: 1, 2

## 5.0SMDJ90CA
designator D?
TVS DIODE 90V 146V DO214AB; Manufacturer: Littelfuse Inc.; Bidirectional Channels: 1; Current - Peak Pulse (10/1000µs): 34.3A; Power Line Protection: No; Power - Peak Pulse: 5000W (5kW); Type: Zener; Voltage - Breakdown (Min): 100V; Part Number: 5.0SMDJ90CA; Applications: General Purpose; ComponentLink1Description: Datasheet; ComponentLink1URL: https://www.littelfuse.com/products/tvs-diodes/surface-mount/~/media/electronics/datasheets/tvs_diodes/littelfuse_tvs_diode_5_0smdj_datasheet.pdf.pdf; ComponentLink2Description: DigiKey Link; ComponentLink2URL: http://digikey.com/product-detail/en/littelfuse-inc/5.0SMDJ90CA/F10863CT-ND/8109599; LastUpdated: 9/2/2020 1:28:01 AM; Lifecycle Status: Active; Minimum Order: 1; Mounting Type: Surface Mount; Operating Temperature: -65°C ~ 150°C (TJ); Package / Case: DO-214AB, SMC; Packaging: TapeAndReel; PartId: 7877; Part Status: Active; Price: 0.94; Series: 5.0SMDJ; Supplier 1: DigiKey; Supplier Part Number 1: F10863CT-ND; Supplier Device Package: DO-214AB (SMCJ); Voltage - Clamping (Max) @ Ipp: 146V; Voltage - Reverse Standoff (Typ): 90V
footprint DO214AB SMC
pins: 1, 2

## 5.0SMDJ100A
designator D?
TVS DIODE 100V 162V DO214AB; Manufacturer: Bourns Inc.; Current - Peak Pulse (10/1000µs): 30.9A; Power Line Protection: No; Power - Peak Pulse: 5000W (5kW); Type: Zener; Unidirectional Channels: 1; Voltage - Breakdown (Min): 111V; Part Number: 5.0SMDJ100A; Applications: General Purpose; ComponentLink1Description: Datasheet; ComponentLink1URL: https://www.bourns.com/docs/product-datasheets/5-0smdj.pdf; ComponentLink2Description: DigiKey Link; ComponentLink2URL: http://digikey.com/product-detail/en/bourns-inc/5.0SMDJ100A/5.0SMDJ100ABBCT-ND/7796637; LastUpdated: 9/2/2020 1:20:02 AM; Lifecycle Status: Active; Minimum Order: 1; Mounting Type: Surface Mount; Operating Temperature: -55°C ~ 150°C (TJ); Package / Case: DO-214AB, SMC; Packaging: TapeAndReel; PartId: 6639; Part Status: Active; Price: 0.76; Series: 5.0SMDJ; Supplier 1: DigiKey; Supplier Part Number 1: 5.0SMDJ100ABBCT-ND; Supplier Device Package: DO-214AB (SMC); Voltage - Clamping (Max) @ Ipp: 162V; Voltage - Reverse Standoff (Typ): 100V
footprint DO214AB SMC
pins: 1, 2

## 5.0SMDJ100CA
designator D?
TVS DIODE 100V 162V DO214AB; Manufacturer: Littelfuse Inc.; Bidirectional Channels: 1; Current - Peak Pulse (10/1000µs): 30.9A; Power Line Protection: No; Power - Peak Pulse: 5000W (5kW); Type: Zener; Voltage - Breakdown (Min): 111V; Part Number: 5.0SMDJ100CA; Applications: General Purpose; ComponentLink1Description: Datasheet; ComponentLink1URL: https://www.littelfuse.com/products/tvs-diodes/surface-mount/~/media/electronics/datasheets/tvs_diodes/littelfuse_tvs_diode_5_0smdj_datasheet.pdf.pdf; ComponentLink2Description: DigiKey Link; ComponentLink2URL: http://digikey.com/product-detail/en/littelfuse-inc/5.0SMDJ100CA/F10846CT-ND/8109582; LastUpdated: 9/2/2020 1:28:09 AM; Lifecycle Status: Active; Minimum Order: 1; Mounting Type: Surface Mount; Operating Temperature: -65°C ~ 150°C (TJ); Package / Case: DO-214AB, SMC; Packaging: TapeAndReel; PartId: 8794; Part Status: Active; Price: 1.25; Series: 5.0SMDJ; Supplier 1: DigiKey; Supplier Part Number 1: F10846CT-ND; Supplier Device Package: DO-214AB (SMCJ); Voltage - Clamping (Max) @ Ipp: 162V; Voltage - Reverse Standoff (Typ): 100V
footprint DO214AB SMC
pins: 1, 2

## 5.0SMDJ110A
designator D?
TVS DIODE 110V 177V DO214AB; Manufacturer: Littelfuse Inc.; Current - Peak Pulse (10/1000µs): 28.3A; Power Line Protection: No; Power - Peak Pulse: 5000W (5kW); Type: Zener; Unidirectional Channels: 1; Voltage - Breakdown (Min): 122V; Part Number: 5.0SMDJ110A; Applications: General Purpose; ComponentLink1Description: Datasheet; ComponentLink1URL: https://www.littelfuse.com/products/tvs-diodes/surface-mount/~/media/electronics/datasheets/tvs_diodes/littelfuse_tvs_diode_5_0smdj_datasheet.pdf.pdf; ComponentLink2Description: DigiKey Link; ComponentLink2URL: http://digikey.com/product-detail/en/littelfuse-inc/5.0SMDJ110A/5.0SMDJ110ACT-ND/2699831; LastUpdated: 9/2/2020 1:20:02 AM; Lifecycle Status: Active; Minimum Order: 1; Mounting Type: Surface Mount; Operating Temperature: -65°C ~ 150°C (TJ); Package / Case: DO-214AB, SMC; Packaging: TapeAndReel; PartId: 6635; Part Status: Active; Price: 0.94; Series: 5.0SMDJ; Supplier 1: DigiKey; Supplier Part Number 1: 5.0SMDJ110ACT-ND; Supplier Device Package: DO-214AB (SMCJ); Voltage - Clamping (Max) @ Ipp: 177V; Voltage - Reverse Standoff (Typ): 110V
footprint DO214AB SMC
pins: 1, 2

## 5.0SMDJ120A
designator D?
TVS DIODE 120V 193V DO214AB; Manufacturer: Littelfuse Inc.; Current - Peak Pulse (10/1000µs): 26A; Power Line Protection: No; Power - Peak Pulse: 5000W (5kW); Type: Zener; Unidirectional Channels: 1; Voltage - Breakdown (Min): 133V; Part Number: 5.0SMDJ120A; Applications: General Purpose; ComponentLink1Description: Datasheet; ComponentLink1URL: https://www.littelfuse.com/products/tvs-diodes/surface-mount/~/media/electronics/datasheets/tvs_diodes/littelfuse_tvs_diode_5_0smdj_datasheet.pdf.pdf; ComponentLink2Description: DigiKey Link; ComponentLink2URL: http://digikey.com/product-detail/en/littelfuse-inc/5.0SMDJ120A/5.0SMDJ120ACT-ND/2699832; LastUpdated: 9/2/2020 1:20:02 AM; Lifecycle Status: Active; Minimum Order: 1; Mounting Type: Surface Mount; Operating Temperature: -65°C ~ 150°C (TJ); Package / Case: DO-214AB, SMC; Packaging: TapeAndReel; PartId: 6634; Part Status: Active; Price: 0.94; Series: 5.0SMDJ; Supplier 1: DigiKey; Supplier Part Number 1: 5.0SMDJ120ACT-ND; Supplier Device Package: DO-214AB (SMCJ); Voltage - Clamping (Max) @ Ipp: 193V; Voltage - Reverse Standoff (Typ): 120V
footprint DO214AB SMC
pins: 1, 2

## 5.0SMDJ120A-Q
designator D?
TVS DIODE; Manufacturer: Bourns Inc.; Current - Peak Pulse (10/1000µs): 26A; Power Line Protection: No; Power - Peak Pulse: 5000W (5kW); Type: Zener; Unidirectional Channels: 1; Voltage - Breakdown (Min): 133V; Voltage - Clamping (Max) @ Ipp: 193V; Voltage - Reverse Standoff (Typ): 120V; Part Number: 5.0SMDJ120A-Q; Applications: Automotive, Telecom; ComponentLink1Description: Datasheet; ComponentLink1URL: https://www.bourns.com/docs/product-datasheets/5-0smdj-q.pdf; ComponentLink2Description: DigiKey Link; ComponentLink2URL: http://digikey.com/product-detail/en/bourns-inc/5.0SMDJ120A-Q/118-5.0SMDJ120A-QCT-ND/10447720; LastUpdated: 9/2/2020 1:20:06 AM; Lifecycle Status: Active; Minimum Order: 1; Mounting Type: Surface Mount; Operating Temperature: -55°C ~ 150°C (TJ); Package / Case: DO-214AB, SMC; Packaging: TapeAndReel; PartId: 7015; Part Status: Active; Price: 0.97; Series: Automotive, AEC-Q101, 5.0SMDJ; Supplier 1: DigiKey; Supplier Part Number 1: 118-5.0SMDJ120A-QCT-ND; Supplier Device Package: SMC (DO-214AB)
footprint DO214AB SMC
pins: 1, 2

## 5.0SMDJ120CA
designator D?
TVS DIODE 120VWM 193VC SMD; Manufacturer: Littelfuse Inc.; Bidirectional Channels: 1; Current - Peak Pulse (10/1000µs): 26A; Power Line Protection: No; Power - Peak Pulse: 5000W (5kW); Type: Zener; Voltage - Breakdown (Min): 133V; Voltage - Clamping (Max) @ Ipp: 193V; Voltage - Reverse Standoff (Typ): 120V; Part Number: 5.0SMDJ120CA; Applications: General Purpose; ComponentLink1Description: Datasheet; ComponentLink1URL: https://www.littelfuse.com/products/tvs-diodes/surface-mount/~/media/electronics/datasheets/tvs_diodes/littelfuse_tvs_diode_5_0smdj_datasheet.pdf.pdf; ComponentLink2Description: DigiKey Link; ComponentLink2URL: http://digikey.com/product-detail/en/littelfuse-inc/5.0SMDJ120CA/5.0SMDJ120CACT-ND/8548329; LastUpdated: 9/2/2020 1:28:06 AM; Lifecycle Status: Active; Minimum Order: 1; Mounting Type: Surface Mount; Operating Temperature: -65°C ~ 150°C (TJ); Package / Case: DO-214AB, SMC; Packaging: TapeAndReel; PartId: 8398; Part Status: Active; Price: 1.25; Series: 5.0SMDJ; Supplier 1: DigiKey; Supplier Part Number 1: 5.0SMDJ120CACT-ND; Supplier Device Package: DO-214AB (SMCJ)
footprint DO214AB SMC
pins: 1, 2

## 5.0SMDJ120CA-T7
designator D?
TVS DIODE 120VWM 193VC SMD; Manufacturer: Littelfuse Inc.; Bidirectional Channels: 1; Current - Peak Pulse (10/1000µs): 26A; Power Line Protection: No; Power - Peak Pulse: 5000W (5kW); Type: Zener; Voltage - Breakdown (Min): 133V; Voltage - Clamping (Max) @ Ipp: 193V; Voltage - Reverse Standoff (Typ): 120V; Part Number: 5.0SMDJ120CA-T7; Applications: General Purpose; ComponentLink1Description: Datasheet; ComponentLink1URL: https://www.littelfuse.com/products/tvs-diodes/surface-mount/~/media/electronics/datasheets/tvs_diodes/littelfuse_tvs_diode_5_0smdj_datasheet.pdf.pdf; ComponentLink2Description: DigiKey Link; ComponentLink2URL: http://digikey.com/product-detail/en/littelfuse-inc/5.0SMDJ120CA-T7/5.0SMDJ120CA-T7CT-ND/8548352; LastUpdated: 9/2/2020 1:28:02 AM; Lifecycle Status: Active; Minimum Order: 1; Mounting Type: Surface Mount; Operating Temperature: -65°C ~ 150°C (TJ); Package / Case: DO-214AB, SMC; Packaging: TapeAndReel; PartId: 8017; Part Status: Active; Price: 1.49; Series: 5.0SMDJ; Supplier 1: DigiKey; Supplier Part Number 1: 5.0SMDJ120CA-T7CT-ND; Supplier Device Package: DO-214AB (SMCJ)
footprint DO214AB SMC
pins: 1, 2

## 5.0SMDJ130A
designator D?
TVS DIODE 130V 209V DO214AB; Manufacturer: Littelfuse Inc.; Current - Peak Pulse (10/1000µs): 24A; Power Line Protection: No; Power - Peak Pulse: 5000W (5kW); Type: Zener; Unidirectional Channels: 1; Voltage - Breakdown (Min): 144V; Part Number: 5.0SMDJ130A; Applications: General Purpose; ComponentLink1Description: Datasheet; ComponentLink1URL: https://www.littelfuse.com/products/tvs-diodes/surface-mount/~/media/electronics/datasheets/tvs_diodes/littelfuse_tvs_diode_5_0smdj_datasheet.pdf.pdf; ComponentLink2Description: DigiKey Link; ComponentLink2URL: http://digikey.com/product-detail/en/littelfuse-inc/5.0SMDJ130A/5.0SMDJ130ACT-ND/2699834; LastUpdated: 9/2/2020 1:20:04 AM; Lifecycle Status: Active; Minimum Order: 1; Mounting Type: Surface Mount; Operating Temperature: -65°C ~ 150°C (TJ); Package / Case: DO-214AB, SMC; Packaging: TapeAndReel; PartId: 6813; Part Status: Active; Price: 0.87; Series: 5.0SMDJ; Supplier 1: DigiKey; Supplier Part Number 1: 5.0SMDJ130ACT-ND; Supplier Device Package: DO-214AB (SMCJ); Voltage - Clamping (Max) @ Ipp: 209V; Voltage - Reverse Standoff (Typ): 130V
footprint DO214AB SMC
pins: 1, 2

## 5.0SMDJ130CA
designator D?
TVS DIODE 130V 209V DO214AB; Manufacturer: Littelfuse Inc.; Bidirectional Channels: 1; Current - Peak Pulse (10/1000µs): 24A; Power Line Protection: No; Power - Peak Pulse: 5000W (5kW); Type: Zener; Voltage - Breakdown (Min): 144V; Part Number: 5.0SMDJ130CA; Applications: General Purpose; ComponentLink1Description: Datasheet; ComponentLink1URL: https://www.littelfuse.com/products/tvs-diodes/surface-mount/~/media/electronics/datasheets/tvs_diodes/littelfuse_tvs_diode_5_0smdj_datasheet.pdf.pdf; ComponentLink2Description: DigiKey Link; ComponentLink2URL: http://digikey.com/product-detail/en/littelfuse-inc/5.0SMDJ130CA/F10847CT-ND/8109583; LastUpdated: 9/2/2020 1:28:06 AM; Lifecycle Status: Active; Minimum Order: 1; Mounting Type: Surface Mount; Operating Temperature: -65°C ~ 150°C (TJ); Package / Case: DO-214AB, SMC; Packaging: TapeAndReel; PartId: 8400; Part Status: Active; Price: 1.25; Series: 5.0SMDJ; Supplier 1: DigiKey; Supplier Part Number 1: F10847CT-ND; Supplier Device Package: DO-214AB (SMCJ); Voltage - Clamping (Max) @ Ipp: 209V; Voltage - Reverse Standoff (Typ): 130V
footprint DO214AB SMC
pins: 1, 2

## 5.0SMDJ140A-T7
designator D?
TVS 5KW 140V 5%UNI DO-214AB TR13; Manufacturer: Littelfuse Inc.; Current - Peak Pulse (10/1000µs): 166.5A (8/20µs); Power Line Protection: No; Power - Peak Pulse: 5000W (5kW); Type: DO-214AB, SMC; Unidirectional Channels: 1; Voltage - Breakdown (Min): 156V; Voltage - Clamping (Max) @ Ipp: 292.1V; Part Number: 5.0SMDJ140A-T7; Applications: Telecom; ComponentLink1Description: Datasheet; ComponentLink1URL: https://www.littelfuse.com/products/tvs-diodes/surface-mount/~/media/electronics/datasheets/tvs_diodes/littelfuse_tvs_diode_5_0smdj_datasheet.pdf.pdf; ComponentLink2Description: DigiKey Link; ComponentLink2URL: http://digikey.com/product-detail/en/littelfuse-inc/5.0SMDJ140A-T7/18-5.0SMDJ140A-T7CT-ND/11205791; LastUpdated: 9/2/2020 1:19:58 AM; Lifecycle Status: Active; Minimum Order: 1; Mounting Type: Surface Mount; Operating Temperature: -65°C ~ 150°C (TJ); Package / Case: DO-214AB, SMC; Packaging: Unknown; PartId: 6221; Part Status: Active; Price: 1.04; Series: 5.0SMDJ; Supplier 1: DigiKey; Supplier Part Number 1: 18-5.0SMDJ140A-T7CT-ND; Supplier Device Package: DO-214AB (SMCJ); Voltage - Reverse Standoff (Typ): 140V
footprint DO214AB SMC
pins: 1, 2

## 5.0SMDJ140CA-T7
designator D?
TVS 5KW 140V 5%BI DO-214AB TR13; Manufacturer: Littelfuse Inc.; Bidirectional Channels: 1; Current - Peak Pulse (10/1000µs): 166.5A (8/20µs); Power Line Protection: No; Power - Peak Pulse: 5000W (5kW); Type: DO-214AB, SMC; Voltage - Breakdown (Min): 156V; Voltage - Clamping (Max) @ Ipp: 292.1V; Part Number: 5.0SMDJ140CA-T7; Applications: Telecom; ComponentLink1Description: Datasheet; ComponentLink1URL: https://www.littelfuse.com/products/tvs-diodes/surface-mount/~/media/electronics/datasheets/tvs_diodes/littelfuse_tvs_diode_5_0smdj_datasheet.pdf.pdf; ComponentLink2Description: DigiKey Link; ComponentLink2URL: http://digikey.com/product-detail/en/littelfuse-inc/5.0SMDJ140CA-T7/18-5.0SMDJ140CA-T7CT-ND/11205807; LastUpdated: 9/2/2020 1:28:01 AM; Lifecycle Status: Active; Minimum Order: 1; Mounting Type: Surface Mount; Operating Temperature: -65°C ~ 150°C (TJ); Package / Case: DO-214AB, SMC; Packaging: Unknown; PartId: 7870; Part Status: Active; Price: 1.49; Series: 5.0SMDJ; Supplier 1: DigiKey; Supplier Part Number 1: 18-5.0SMDJ140CA-T7CT-ND; Supplier Device Package: DO-214AB (SMCJ); Voltage - Reverse Standoff (Typ): 140V
footprint DO214AB SMC
pins: 1, 2

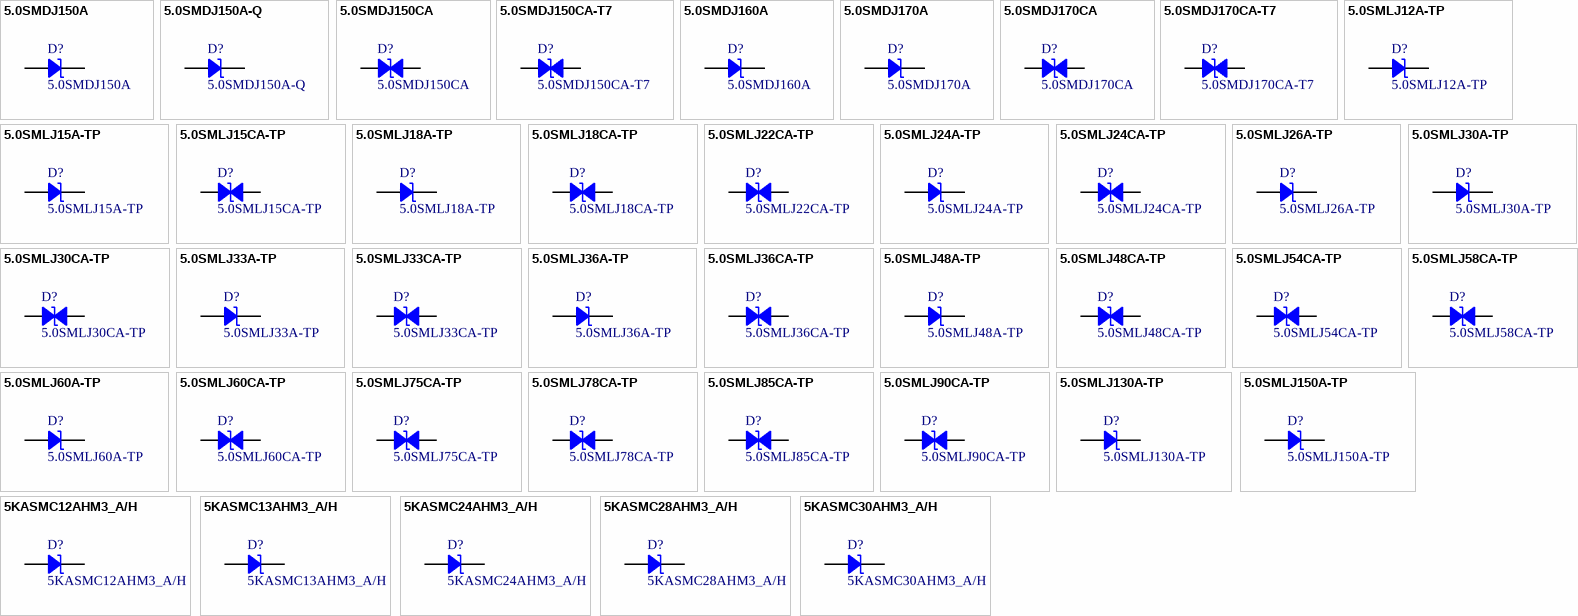
[diagram p14: symbols 5.0SMDJ150A to 5KASMC30AHM3_A/H]

## 5.0SMDJ150A
designator D?
TVS DIODE 150V 243V DO214AB; Manufacturer: Bourns Inc.; Current - Peak Pulse (10/1000µs): 20.6A; Power Line Protection: No; Power - Peak Pulse: 5000W (5kW); Type: Zener; Unidirectional Channels: 1; Voltage - Breakdown (Min): 167V; Part Number: 5.0SMDJ150A; Applications: General Purpose; ComponentLink1Description: Datasheet; ComponentLink1URL: https://www.bourns.com/docs/product-datasheets/5-0smdj.pdf; ComponentLink2Description: DigiKey Link; ComponentLink2URL: http://digikey.com/product-detail/en/bourns-inc/5.0SMDJ150A/118-5.0SMDJ150ACT-ND/10447740; LastUpdated: 9/2/2020 1:20:06 AM; Lifecycle Status: Active; Minimum Order: 1; Mounting Type: Surface Mount; Operating Temperature: -55°C ~ 150°C (TJ); Package / Case: DO-214AB, SMC; Packaging: TapeAndReel; PartId: 7032; Part Status: Active; Price: 0.76; Series: 5.0SMDJ; Supplier 1: DigiKey; Supplier Part Number 1: 118-5.0SMDJ150ACT-ND; Supplier Device Package: DO-214AB (SMC); Voltage - Clamping (Max) @ Ipp: 243V; Voltage - Reverse Standoff (Typ): 150V
footprint DO214AB SMC
pins: 1, 2

## 5.0SMDJ150A-Q
designator D?
TVS DIODE; Manufacturer: Bourns Inc.; Current - Peak Pulse (10/1000µs): 20.6A; Power Line Protection: No; Power - Peak Pulse: 5000W (5kW); Type: Zener; Unidirectional Channels: 1; Voltage - Breakdown (Min): 167V; Voltage - Clamping (Max) @ Ipp: 243V; Voltage - Reverse Standoff (Typ): 150V; Part Number: 5.0SMDJ150A-Q; Applications: Automotive, Telecom; ComponentLink1Description: Datasheet; ComponentLink1URL: https://www.bourns.com/docs/product-datasheets/5-0smdj-q.pdf; ComponentLink2Description: DigiKey Link; ComponentLink2URL: http://digikey.com/product-detail/en/bourns-inc/5.0SMDJ150A-Q/118-5.0SMDJ150A-QCT-ND/10447716; LastUpdated: 9/2/2020 1:20:06 AM; Lifecycle Status: Active; Minimum Order: 1; Mounting Type: Surface Mount; Operating Temperature: -55°C ~ 150°C (TJ); Package / Case: DO-214AB, SMC; Packaging: TapeAndReel; PartId: 7016; Part Status: Active; Price: 0.97; Series: Automotive, AEC-Q101, 5.0SMDJ; Supplier 1: DigiKey; Supplier Part Number 1: 118-5.0SMDJ150A-QCT-ND; Supplier Device Package: SMC (DO-214AB)
footprint DO214AB SMC
pins: 1, 2

## 5.0SMDJ150CA
designator D?
TVS DIODE 150V 243V DO214AB; Manufacturer: Littelfuse Inc.; Bidirectional Channels: 1; Current - Peak Pulse (10/1000µs): 20.6A; Power Line Protection: No; Power - Peak Pulse: 5000W (5kW); Type: Zener; Voltage - Breakdown (Min): 167V; Part Number: 5.0SMDJ150CA; Applications: General Purpose; ComponentLink1Description: Datasheet; ComponentLink1URL: https://www.littelfuse.com/products/tvs-diodes/surface-mount/~/media/electronics/datasheets/tvs_diodes/littelfuse_tvs_diode_5_0smdj_datasheet.pdf.pdf; ComponentLink2Description: DigiKey Link; ComponentLink2URL: http://digikey.com/product-detail/en/littelfuse-inc/5.0SMDJ150CA/F10848CT-ND/8109584; LastUpdated: 9/2/2020 1:28:09 AM; Lifecycle Status: Active; Minimum Order: 1; Mounting Type: Surface Mount; Operating Temperature: -65°C ~ 150°C (TJ); Package / Case: DO-214AB, SMC; Packaging: TapeAndReel; PartId: 8793; Part Status: Active; Price: 1.25; Series: 5.0SMDJ; Supplier 1: DigiKey; Supplier Part Number 1: F10848CT-ND; Supplier Device Package: DO-214AB (SMCJ); Voltage - Clamping (Max) @ Ipp: 243V; Voltage - Reverse Standoff (Typ): 150V
footprint DO214AB SMC
pins: 1, 2

## 5.0SMDJ150CA-T7
designator D?
TVS DIODE 150V 243V DO214AB; Manufacturer: Littelfuse Inc.; Bidirectional Channels: 1; Current - Peak Pulse (10/1000µs): 20.6A; Power Line Protection: No; Power - Peak Pulse: 5000W (5kW); Type: Zener; Voltage - Breakdown (Min): 167V; Part Number: 5.0SMDJ150CA-T7; Applications: General Purpose; ComponentLink1Description: Datasheet; ComponentLink1URL: https://www.littelfuse.com/products/tvs-diodes/surface-mount/~/media/electronics/datasheets/tvs_diodes/littelfuse_tvs_diode_5_0smdj_datasheet.pdf.pdf; ComponentLink2Description: DigiKey Link; ComponentLink2URL: http://digikey.com/product-detail/en/littelfuse-inc/5.0SMDJ150CA-T7/F11454CT-ND/9326983; LastUpdated: 9/2/2020 1:28:02 AM; Lifecycle Status: Active; Minimum Order: 1; Mounting Type: Surface Mount; Operating Temperature: -65°C ~ 150°C (TJ); Package / Case: DO-214AB, SMC; Packaging: TapeAndReel; PartId: 8021; Part Status: Active; Price: 1.49; Series: 5.0SMDJ; Supplier 1: DigiKey; Supplier Part Number 1: F11454CT-ND; Supplier Device Package: DO-214AB (SMCJ); Voltage - Clamping (Max) @ Ipp: 243V; Voltage - Reverse Standoff (Typ): 150V
footprint DO214AB SMC
pins: 1, 2

## 5.0SMDJ160A
designator D?
TVS DIODE 160V 259V DO214AB; Manufacturer: Littelfuse Inc.; Current - Peak Pulse (10/1000µs): 19.3A; Power Line Protection: No; Power - Peak Pulse: 5000W (5kW); Type: Zener; Unidirectional Channels: 1; Voltage - Breakdown (Min): 178V; Part Number: 5.0SMDJ160A; Applications: General Purpose; ComponentLink1Description: Datasheet; ComponentLink1URL: https://www.littelfuse.com/products/tvs-diodes/surface-mount/~/media/electronics/datasheets/tvs_diodes/littelfuse_tvs_diode_5_0smdj_datasheet.pdf.pdf; ComponentLink2Description: DigiKey Link; ComponentLink2URL: http://digikey.com/product-detail/en/littelfuse-inc/5.0SMDJ160A/5.0SMDJ160ACT-ND/2699840; LastUpdated: 9/2/2020 1:20:04 AM; Lifecycle Status: Active; Minimum Order: 1; Mounting Type: Surface Mount; Operating Temperature: -65°C ~ 150°C (TJ); Package / Case: DO-214AB, SMC; Packaging: TapeAndReel; PartId: 6811; Part Status: Active; Price: 0.87; Series: 5.0SMDJ; Supplier 1: DigiKey; Supplier Part Number 1: 5.0SMDJ160ACT-ND; Supplier Device Package: DO-214AB (SMCJ); Voltage - Clamping (Max) @ Ipp: 259V; Voltage - Reverse Standoff (Typ): 160V
footprint DO214AB SMC
pins: 1, 2

## 5.0SMDJ170A
designator D?
TVS DIODE 170V 275V DO214AB; Manufacturer: Bourns Inc.; Current - Peak Pulse (10/1000µs): 18.2A; Power Line Protection: No; Power - Peak Pulse: 5000W (5kW); Type: Zener; Unidirectional Channels: 1; Voltage - Breakdown (Min): 189V; Part Number: 5.0SMDJ170A; Applications: General Purpose; ComponentLink1Description: Datasheet; ComponentLink1URL: https://www.bourns.com/docs/product-datasheets/5-0smdj.pdf; ComponentLink2Description: DigiKey Link; ComponentLink2URL: http://digikey.com/product-detail/en/bourns-inc/5.0SMDJ170A/5.0SMDJ170ABBCT-ND/7796644; LastUpdated: 9/2/2020 1:20:02 AM; Lifecycle Status: Active; Minimum Order: 1; Mounting Type: Surface Mount; Operating Temperature: -55°C ~ 150°C (TJ); Package / Case: DO-214AB, SMC; Packaging: TapeAndReel; PartId: 6638; Part Status: Active; Price: 0.76; Series: 5.0SMDJ; Supplier 1: DigiKey; Supplier Part Number 1: 5.0SMDJ170ABBCT-ND; Supplier Device Package: DO-214AB (SMC); Voltage - Clamping (Max) @ Ipp: 275V; Voltage - Reverse Standoff (Typ): 170V
footprint DO214AB SMC
pins: 1, 2

## 5.0SMDJ170CA
designator D?
TVS DIODE 170VWM 275VC SMD; Manufacturer: Littelfuse Inc.; Bidirectional Channels: 1; Current - Peak Pulse (10/1000µs): 18.2A; Power Line Protection: No; Power - Peak Pulse: 5000W (5kW); Type: Zener; Voltage - Breakdown (Min): 189V; Voltage - Clamping (Max) @ Ipp: 275V; Voltage - Reverse Standoff (Typ): 170V; Part Number: 5.0SMDJ170CA; Applications: General Purpose; ComponentLink1Description: Datasheet; ComponentLink1URL: https://www.littelfuse.com/products/tvs-diodes/surface-mount/~/media/electronics/datasheets/tvs_diodes/littelfuse_tvs_diode_5_0smdj_datasheet.pdf.pdf; ComponentLink2Description: DigiKey Link; ComponentLink2URL: http://digikey.com/product-detail/en/littelfuse-inc/5.0SMDJ170CA/5.0SMDJ170CACT-ND/8548330; LastUpdated: 9/2/2020 1:28:02 AM; Lifecycle Status: Active; Minimum Order: 1; Mounting Type: Surface Mount; Operating Temperature: -65°C ~ 150°C (TJ); Package / Case: DO-214AB, SMC; Packaging: TapeAndReel; PartId: 8019; Part Status: Active; Price: 1.25; Series: 5.0SMDJ; Supplier 1: DigiKey; Supplier Part Number 1: 5.0SMDJ170CACT-ND; Supplier Device Package: DO-214AB (SMCJ)
footprint DO214AB SMC
pins: 1, 2